# Altium schematic symbol library Resistor_Components.SchLib: 25 symbols
Pins are listed as number, name and electrical type; pins without a type are passive.

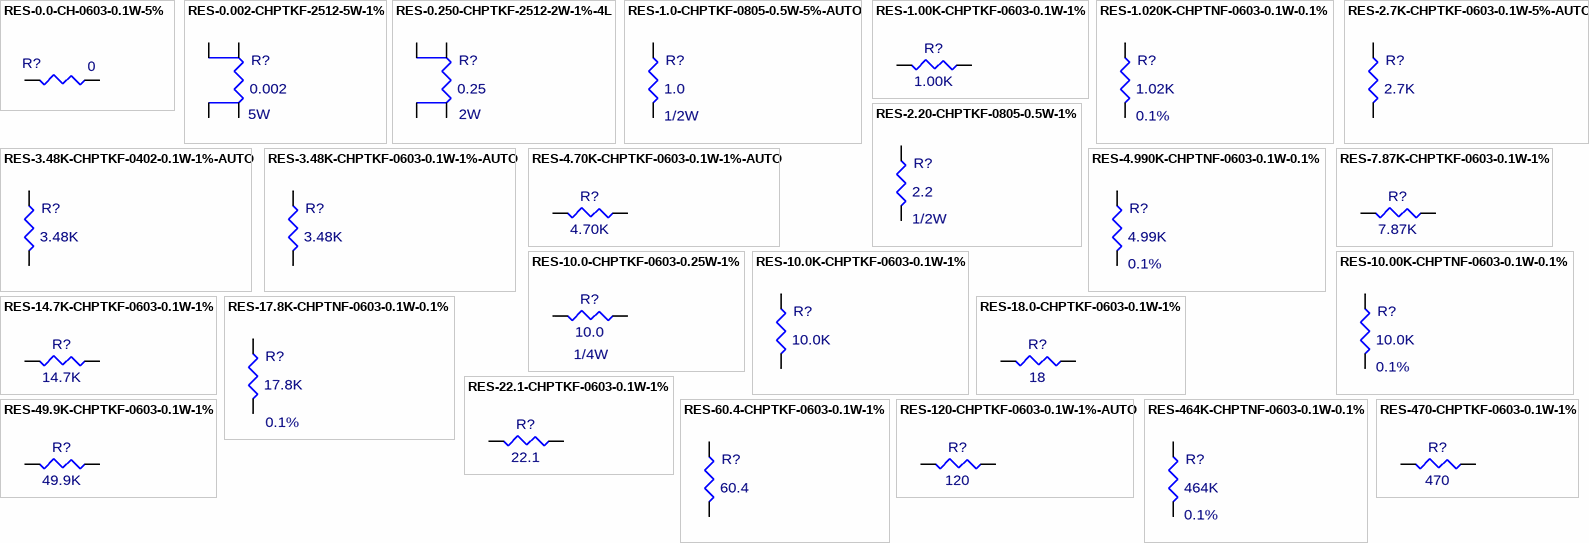
[diagram p0: symbols RES-0.0-CH-0603-0.1W-5% to RES-470-CHPTKF-0603-0.1W-1%]

## RES-0.0-CH-0603-0.1W-5%
designator R?  value 0  (hidden comment: RES-0.0-CH-0603-0.1W-5%)
Resistor, chip, 0.00 ohm, 1/10W, 5%, 0603; QPN: 122-002513-0000; Checked: JER 2-22-13; MFGPN: CRCW06030000Z0EA; MFG: Vishay/Dale; Temp: 155C; Wattage: 1/10W; Tolerance: 5%
footprint 0603_R
pins: 1, 2

## RES-0.002-CHPTKF-2512-5W-1%
designator R?  value 0.002  Wattage: 5W  (hidden comment: RES-0.002-CHPTKF-2512-5W-1%)
Resistor, Chip, Thick Film, 0.002, 5W, 1%, 2512; MFG: Bourns Inc.; MFGPN: CSS2H-2512K-2L00F; QPN: 122-018872-0023; Temp: 170C; Geometry.height: 0.052"; Tolerance: 1%
footprint 2512-CURRENT-SENSE
pins: 1, 2, 3, 4

## RES-0.250-CHPTKF-2512-2W-1%-4L
designator R?  value 0.25  Wattage: 2W  (hidden comment: RES-0.250-CHPTKF-2512-2W-1%-4L)
Resistor, Chip, Thick Film, 0.25, 2W, 1%, 2512; Geometry.Height: 0.028"; QPN: 122-018562-0252; MFGPN: RHC2512FTR250; MFG: Stackpole; Checked: JER 1-31-18; Temp: 155C; Tolerance: 1%
footprint 2512-CURRENT-SENSE
pins: 1, 2, 3, 4

## RES-1.0-CHPTKF-0805-0.5W-5%-AUTO
designator R?, comment value 1.0  Wattage: 1/2W  (hidden comment: RES-2.20-CHPTKF-0805-0.5W-1%)
Resistor, Chip, Thick Film, 1.0, 1/2W, 1%, 0805, AEC-Q200; MFG: Vishay Dale; MFGPN: CRCW08051R00JNEAHP; Temp: 155C; Geometry.height: 0.024"; Tolerance: 1%
footprint 0805_R
pins: 1, 2

## RES-1.00K-CHPTKF-0603-0.1W-1%
designator R?  value 1.00K  (hidden comment: RES-1.00K-CHPTKF-0603-0.1W-1%)
Resistor, Chip, Thick Film, 1.00K, 1/10W, 1%, 0603; Geometry.Height: 0.022"; QPN: 122-002512-1001; MFGPN: ERJ-3EKF1001V; MFG: Panasonic; Checked: JER 2-22-13; Temp: 155C; Wattage: 1/10W; Tolerance: 1%
footprint 0603_R
pins: 1, 2

## RES-1.020K-CHPTNF-0603-0.1W-0.1%
designator R?  value 1.02K  Tolerance: 0.1%  (hidden comment: RES-1.020K-CHPTNF-0603-0.1W-0.1%)
Resistor, SMT 0603, Thin Film, 1.02K, 0.1%, 1/10W; QPN: 122-002610-1021; MFGPN: TNPW06031K02BEEA; MFG: Vishay Dale; Temp: 175C; Geometry.height: 0.022"; Functional Block: 17; Wattage: 1/10W
footprint 0603_R
pins: 1, 2

## RES-2.7K-CHPTKF-0603-0.1W-5%-AUTO
designator R?  value 2.7K  (hidden comment: RES-2.7K-CHPTKF-0603-0.1W-5%-AUTO)
Resistor, Chip, Thick Film, 2.7K, 1/10W, 5%, 0603, AEC-Q200; MFG: Yageo; MFGPN: RC0603JR-072K7L; QPN: 122-002513-2701; Temp: 155C; Tolerance: 5%; Wattage: 1/10W
footprint 0603_R
pins: 1, 2

## RES-2.20-CHPTKF-0805-0.5W-1%
designator R?  value 2.2  Wattage: 1/2W  (hidden comment: RES-2.20-CHPTKF-0805-0.5W-1%)
Resistor, Chip, Thick Film, 2.2, 1/2W, 1%, 0805; MFG: Vishay Dale; MFGPN: CRCW08052R20FKEAHP; QPN: 122-063542-0221; Temp: 155C; Geometry.height: 0.024"; Tolerance: 1%
footprint 0805_R
pins: 1, 2

## RES-3.48K-CHPTKF-0402-0.1W-1%-AUTO
designator R?  value 3.48K  (hidden comment: RES-3.48K-CHPTKF-0402-0.1W-1%-AUTO)
Resistor, Chip, Thick Film, 3.48K, 1/10W, 1%, 0402, AEC-Q200; MFG: Panasonic; MFGPN: ERJ-3EKF3481V; Tolerance: 1%; Wattage: 1/10W
footprint 0402_R (Chip Inductor, 2-Leads, Body 1.00x0.55mm, IPC Medium Density)
pins: 1, 2

## RES-3.48K-CHPTKF-0603-0.1W-1%-AUTO
designator R?  value 3.48K  (hidden comment: RES-3.48K-CHPTKF-0603-0.1W-1%-AUTO)
Resistor, Chip, Thick Film, 3.48K, 1/10W, 1%, 0603, AEC-Q200; MFG: Panasonic; MFGPN: ERJ-3EKF3481V; Tolerance: 1%; Wattage: 1/10W
footprint 0603_R
pins: 1, 2

## RES-4.70K-CHPTKF-0603-0.1W-1%-AUTO
designator R?  value 4.70K  (hidden comment: RES-4.70K-CHPTKF-0603-0.1W-1%-AUTO)
Resistor, Chip, Thick Film, 4.70K, 1/8W, 1%, 0603; MFG: Vishay Dale; MFGPN: CRCW06034K70FKEA; Temp: 155C; Geometry.height: .020; Tolerance: 1%; Wattage: 1/8W
footprint 0603_R
pins: 1, 2

## RES-4.990K-CHPTNF-0603-0.1W-0.1%
designator R?  value 4.99K  Tolerance: 0.1%  (hidden comment: RES-4.990K-CHPTNF-0603-0.1W-0.1%)
Resistor, Chip, Thin Film, 4.99K, 1/10W, 0.1%, 0603; Checked: JER 2-9-15; MFG: Vishay Dale; MFGPN: TNPW06034K99BEEA; QPN: 122-002610-4991; Temp: 175C; Wattage: 1/10W
footprint 0603_R
pins: 1, 2

## RES-7.87K-CHPTKF-0603-0.1W-1%
designator R?  value 7.87K  (hidden comment: RES-7.87K-CHPTKF-0603-0.1W-1%)
Resistor, Chip, Thick Film, 7.87K, 1/10W, 1%, 0603; MFG: Yageo; MFGPN: RC0603FR-077K87L; QPN: 122-002512-7871; Notes: Pulse withstanding; Temp: 155C; Tolerance: 1%; Wattage: 1/10W
footprint 0603_R
pins: 1, 2

## RES-10.0-CHPTKF-0603-0.25W-1%
designator R?  value 10.0  Wattage: 1/4W  (hidden comment: RES-10.0-CHPTKF-0603-0.25W-1%)
Resistor, Chip, Thick Film, 10.0, 1/4W, 1%, 0603; MFG: Panasonic; MFGPN: ERJ-PA3F10R0V; QPN: 122-052532-0100; Notes: Pulse Withstanding; Temp: 155C; Geometry.height: 0.022"; Tolerance: 1%
footprint 0603_R
pins: 1, 2

## RES-10.0K-CHPTKF-0603-0.1W-1%
designator R?  value 10.0K  (hidden comment: RES-10.0K-CHPTKF-0603-0.1W-1%)
Resistor, Chip, Thick Film, 10.0K, 1/10W, 1%, 0603; MFG: Panasonic; MFGPN: ERJ-3EKF1002V; QPN: 122-002512-1002; Checked: JER 2-22-13; Temp: 155C; Tolerance: 1%; Wattage: 1/10W
footprint 0603_R
pins: 1, 2

## RES-10.00K-CHPTNF-0603-0.1W-0.1%
designator R?  value 10.0K  Tolerance: 0.1%  (hidden comment: RES-10.00K-CHPTNF-0603-0.1W-0.1%)
Resistor, Chip, Thin Film, 10.00K, 1/10W, 0.1%, 0603; Checked: JER 12-4-14; MFG: Panasonic; MFGPN: ERA-3AEB103V; QPN: 122-002610-1002; Temp: 155C; Geometry.height: 0.022"; Wattage: 1/10W
footprint 0603_R
pins: 1, 2

## RES-14.7K-CHPTKF-0603-0.1W-1%
designator R?  value 14.7K  (hidden comment: RES-14.7K-CHPTKF-0603-0.1W-1%)
Resistor, Chip, Thick Film, 14.7K, 1/10W, 1%, 0603; MFG: Stackpole; MFGPN: RMCF0603FT14K7; QPN: 122-002512-1472; Notes: Pulse withstanding; Temp: 155C; Geometry.height: 0.022"; Tolerance: 1%; Wattage: 1/10W
footprint 0603_R
pins: 1, 2

## RES-17.8K-CHPTNF-0603-0.1W-0.1%
designator R?  value 17.8K  Tolerance: 0.1%  (hidden comment: RES-17.8K-CHPTNF-0603-0.1W-0.1%)
Resistor, Chip, Thin Film, 17.8K, 1/10W, 0.1%, 0603; MFG: Panasonic; MFGPN: ERA-3AEB1782V; QPN: 122-002610-1782; Temp: 155C; Geometry.height: 0.022"; Wattage: 1/10W
footprint 0603_R
pins: 1, 2

## RES-18.0-CHPTKF-0603-0.1W-1%
designator R?  value 18  (hidden comment: RES-18.0-CHPTKF-0603-0.1W-1%)
Resistor, Chip, Thick Film, 18, 1/10W, 1%, 0603; MFG: Yageo; MFGPN: RC0603FR-0718RL; QPN: 122-002512-0180; Temp: 155C; Geometry.height: 0.022"; Tolerance: 1%; Wattage: 1/10W
footprint 0603_R
pins: 1, 2

## RES-22.1-CHPTKF-0603-0.1W-1%
designator R?  value 22.1  (hidden comment: RES-22.1-CHPTKF-0603-0.1W-1%)
Resistor, Chip, Thick Film, 22.1, 1/10W, 1%, 0603; Checked: JER 2-22-13; MFG: Panasonic; MFGPN: ERJ-3EKF22R1V; QPN: 122-012512-2211; Tolerance: 1%; Wattage: 1/10W
footprint 0603_R
pins: 1, 2

## RES-49.9K-CHPTKF-0603-0.1W-1%
designator R?  value 49.9K  (hidden comment: RES-49.9K-CHPTKF-0603-0.1W-1%)
Resistor, Chip, Thick Film, 49.9K, 1/10W, 1%, 0603; MFG: Panasonic; MFGPN: ERJ-3EKF4992V; QPN: 122-002512-4992; Temp: 155C; Geometry.height: 0.022"; Tolerance: 1%; Wattage: 1/10W
footprint 0603_R
pins: 1, 2

## RES-60.4-CHPTKF-0603-0.1W-1%
designator R?  value 60.4  (hidden comment: RES-60.4-CHPTKF-0603-0.1W-1%)
Resistor, Chip, Thick Film, 60.4, 1/10W, 1%, 0603; Checked: JER 1-30-15; MFG: Panasonic; MFGPN: ERJ-3EKF60R4V; QPN: 122-012512-6041; Temp: 155C; Tolerance: 1%; Wattage: 1/10W
footprint 0603_R
pins: 1, 2

## RES-120-CHPTKF-0603-0.1W-1%-AUTO
designator R?  value 120  (hidden comment: RES-120-CHPTKF-0603-0.1W-1%-AUTO)
Resistor, Chip, Thick Film, 120, 1/10W, 1%, 0603; MFG: Panasonic; MFGPN: ERJ-3EKF1200V; Temp: 155C; Geometry.height: .020; Tolerance: 1%; Wattage: 1/10W
footprint 0603_R
pins: 1, 2

## RES-464K-CHPTNF-0603-0.1W-0.1%
designator R?  value 464K  Tolerance: 0.1%  (hidden comment: RES-464K-CHPTNF-0603-0.1W-0.1%)
Resistor, Chip, Thin Film, 464K, 1/10W, 0.1%, 0603; MFG: Yageo; MFGPN: RT0603BRD07464KL; QPN: 122-002610-4643; Temp: 125C; Geometry.height: 0.022"; Wattage: 1/10W
footprint 0603_R
pins: 1, 2

## RES-470-CHPTKF-0603-0.1W-1%
designator R?  value 470  (hidden comment: RES-470-CHPTKF-0603-0.1W-1%)
Resistor, Chip, Thick Film, 470, 1/10W, 1%, 0603; Checked: JER 1-30-15; MFG: Panasonic; MFGPN: ERJ-3EKF4700V; QPN: 122-002512-4700; Temp: 155C; Geometry.height: 0.022"; Tolerance: 1%; Wattage: 1/10W
footprint 0603_R
pins: 1, 2